# EAGLE library part MCP23S17-E/SO (library Z_GessIOMod)
16-Bit I/O Expander
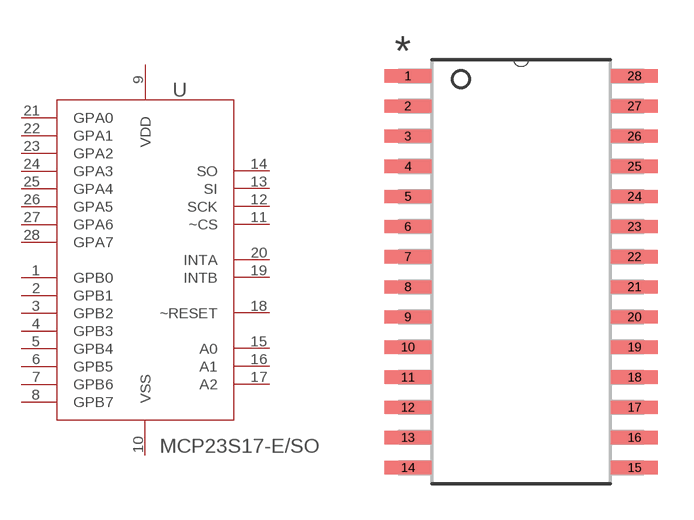
[diagram p2: symbol with the pads of SOIC127P030X265-28N; footprint SOIC127P030X265-28N]

Designator prefix -

## MCP23S17-E/SO (DESCRIPTION: IC I/O EXPANDER; MPN: MCP23S17-E/SO; OC_FARNELL: 1332093; OC_NEWARK: 31K2950; PACKAGE: SOIC-28; SUPPLIER: Microchip)  [SOIC127P030X265-28N]
1  GPB0
2  GPB1
3  GPB2
4  GPB3
5  GPB4
6  GPB5
7  GPB6
8  GPB7
9  VDD  pwr
10  VSS  pwr
11  ~CS  in
12  SCK  in
13  SI  in
14  SO  out
15  A0  in
16  A1  in
17  A2  in
18  ~RESET  in
19  INTB  out
20  INTA  out
21  GPA0
22  GPA1
23  GPA2
24  GPA3
25  GPA4
26  GPA5
27  GPA6
28  GPA7

## Footprint SOIC127P030X265-28N (pad centres in mm)
smd 1.981 x 0.559: 1 -4.775,8.255; 2 -4.775,6.985; 3 -4.775,5.715; 4 -4.775,4.445; 5 -4.775,3.175; 6 -4.775,1.905; 7 -4.775,0.635; 8 -4.775,-0.635; 9 -4.775,-1.905; 10 -4.775,-3.175; 11 -4.775,-4.445; 12 -4.775,-5.715; 13 -4.775,-6.985; 14 -4.775,-8.255; 15 4.775,-8.255; 16 4.775,-6.985; 17 4.775,-5.715; 18 4.775,-4.445; 19 4.775,-3.175; 20 4.775,-1.905; 21 4.775,-0.635; 22 4.775,0.635; 23 4.775,1.905; 24 4.775,3.175; 25 4.775,4.445; 26 4.775,5.715; 27 4.775,6.985; 28 4.775,8.255